# EAGLE library part TXS0108 (library SparkFun-IC-Comms)
8-Bit Bi-Directional Level Shifter For Open-Drain and Push-Pull 1.2V-3.6V (VCCA) to 1.65V-5.5V (VCCB) bi-directional level shifter with auto direction sensing. Max data rate - VCCA 1.2V: 20Mbps (50ns), VCCA 3.3V: 100Mbps (10ns) Digikey: 296-24806-2-ND (20-VFDFN) SparkFun Products Example Product (SKU)
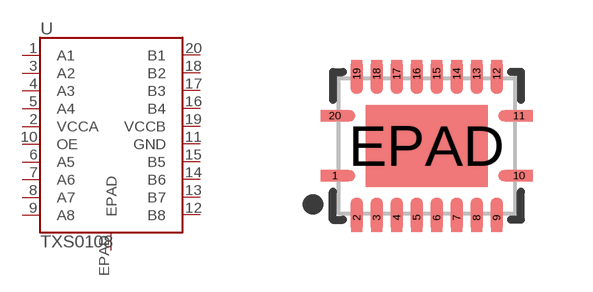
[diagram p6: symbol with the pads of VFQFN-20; footprint VFQFN-20]

Designator prefix U

## TXS0108-VFQFN_20 (PROD_ID: IC-14343; VALUE: TXS0108)  [VFQFN-20]
1  A1
2  VCCA
3  A2
4  A3
5  A4
6  A5
7  A6
8  A7
9  A8
10  OE
11  GND
12  B8
13  B7
14  B6
15  B5
16  B4
17  B3
18  B2
19  VCCB
20  B1
EPAD  EPAD

## Footprint VFQFN-20 (pad centres in mm)
VFQFN-20 - A Small SMD Package Specifications: Pin count: 20 Pin pitch: 0.5 mm Area: 4.5 x 3.5 mm Datasheet referenced for footprint <http://www.ti.com/lit/ds/symlink/txs0108e.pdf> Example device(s): TXS0108
smd 0.7 x 0.28: 1 -2.3,-0.75; 10 2.3,-0.75; 11 2.3,0.75; 20 -2.3,0.75
smd 0.28 x 0.7: 2 -1.75,-1.8; 3 -1.25,-1.8; 4 -0.75,-1.8; 5 -0.25,-1.8; 6 0.25,-1.8; 7 0.75,-1.8; 8 1.25,-1.8; 9 1.75,-1.8; 12 1.75,1.8; 13 1.25,1.8; 14 0.75,1.8; 15 0.25,1.8; 16 -0.25,1.8; 17 -0.75,1.8; 18 -1.25,1.8; 19 -1.75,1.8
smd 3.05 x 2.05: EPAD 0,0